# Altium footprint library IC_ROHM_BH1750FVI-TR_eec_0.PcbLib: 1 footprints
Each footprint in its own frame and in the unit in brackets; x right, y up, seen from the top. Pads: shape width x height; smd on the part's side, far side on the other; paste and mask are expansions set on the pad; w line width, h text height; cw(c..) or ccw(c..) is an arc to the next point about the centre after c.
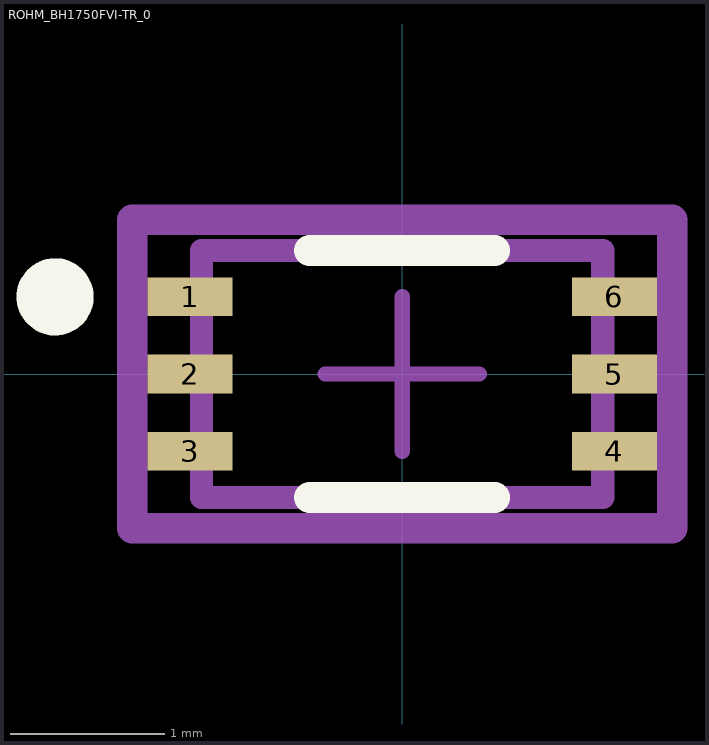
[diagram p0: the footprint, top view; thin cyan lines are the x and y axes]

## ROHM_BH1750FVI-TR_0 [mm]
pads (6):
  rect 0.55x0.25 smd paste+0 mask+0: 1(-1.375,0.5) 2(-1.375,0) 3(-1.375,-0.5) 4(1.375,-0.5) 5(1.375,0) 6(1.375,0.5)
Top Overlay:
  circle w0.25: c-2.25,0.5 r0.125
  lines w0.2: -0.6,-0.8 0.6,-0.8 ; -0.6,0.8 0.6,0.8
Mechanical 10:
  lines w0.2: -1.75,-1 -1.75,1 1.75,1 1.75,-1 -1.75,-1
  text ".Designator" at 0,0 h1
Mechanical 12:
  lines w0.15: -1.3,-0.8 -1.3,0.8 1.3,0.8 1.3,-0.8 -1.3,-0.8
Mechanical 15:
  lines w0.1: -0.5,0 0.5,0 ; 0,-0.5 0,0.5
  lines w0.2: -1.75,-1 -1.75,1 1.75,1 1.75,-1 -1.75,-1
3D body "IC_ROHM_BH1750FVI-TR_eec.STEP": height 0.25, standoff 0, extent -1.75,-1 1.75,1